# EAGLE library part I__4033 (library ..SMD)
Decade COUNTER/DIVIDER, 7-seg. outputs
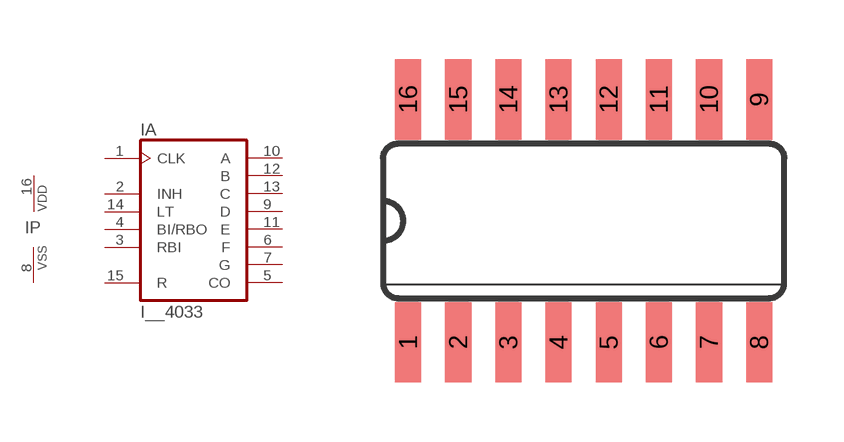
[diagram p36: symbol with the pads of SO16; footprint SO16]

Designator prefix I; gates A=4033 P=PWRN

## I__4033D  [SO16]
1  A:CLK  in
2  A:INH  in
3  A:RBI  in
4  A:BI/RBO  in
5  A:CO  out
6  A:F  out
7  A:G  out
8  P:VSS  pwr
9  A:D  out
10  A:A  out
11  A:E  out
12  A:B  out
13  A:C  out
14  A:LT  in
15  A:R  in
16  P:VDD  pwr

## Footprint SO16 (pad centres in mm)
Small Outline Package 16
smd 0.66 x 2.032: 1 -4.445,-3.073; 2 -3.175,-3.073; 3 -1.905,-3.073; 4 -0.635,-3.073; 5 0.635,-3.073; 6 1.905,-3.073; 7 3.175,-3.073; 8 4.445,-3.073; 9 4.445,3.073; 10 3.175,3.073; 11 1.905,3.073; 12 0.635,3.073; 13 -0.635,3.073; 14 -1.905,3.073; 15 -3.175,3.073; 16 -4.445,3.073